# Altium footprint library CAP_SMD.PcbLib: 2 footprints
Each footprint in its own frame and in the unit in brackets; x right, y up, seen from the top. Pads: shape width x height; smd on the part's side, far side on the other; paste and mask are expansions set on the pad; w line width, h text height; cw(c..) or ccw(c..) is an arc to the next point about the centre after c.
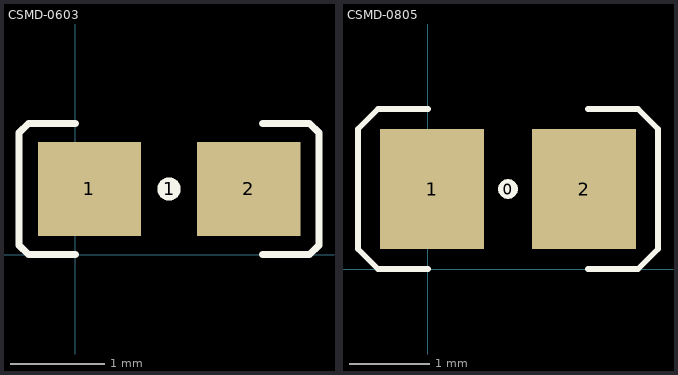
[diagram p0: the footprints below, top view; thin cyan lines are the x and y axes]

## CSMD-0603 [mm] "Chip Capacitor; Body 1.6 x 0.8 mm (LxW typ)"
height 1.35
pads (3):
  rect 1.1x1 smd: 1(0.15,0.7) 2(1.85,0.7)
  round 0.25 on Top Overlay: 1(1,0.7)
Top Overlay:
  lines w0.075: 0,0 -0.5,0 -0.6,0.1 -0.6,1.3 -0.5,1.4 0,1.4 ; 2,0 2.5,0 2.6,0.1 2.6,1.3 2.5,1.4 2,1.4
3D body "capacitor_rnd_1500603n0r5c500.stp": height 0.8, standoff 0, extent 0.2,0.3 1.8,1.1

## CSMD-0805 [mm] "Chip Resistor; Body 2.0 x 1.3 mm (LxW typ)"
height 0.65
pads (3):
  round 0.25 on Top Overlay: 0(1,1)
  rect 1.3x1.5 smd: 1(0.05,1) 2(1.95,1)
Top Overlay:
  lines w0.075: 0,0 -0.625,0 -0.875,0.25 -0.875,1.75 -0.625,2 0,2 ; 2,0 2.625,0 2.875,0.25 2.875,1.75 2.625,2 2,2
3D body "capacitor_rnd1500805n0r5c500.stp": height 0.6, standoff 0, extent 0,0.25 2,1.75